# EAGLE library part PIC24FJXXGA002 (library X893)
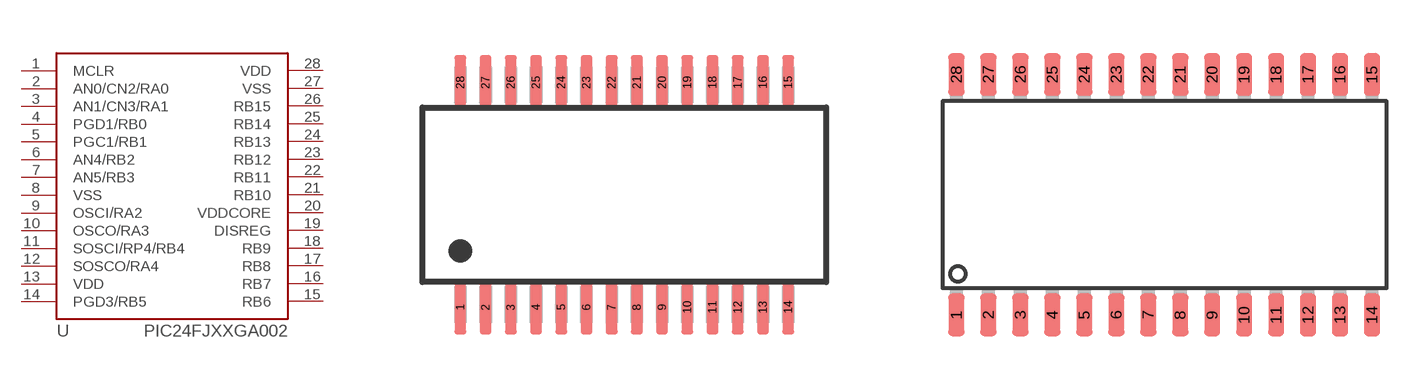
[diagram p103: symbol with the pads of SSOP28DB; footprints SSOP28DB, SO28W]

Designator prefix U

## PIC24FJXXGA002-I/SS  [SSOP28DB]
1  MCLR
2  AN0/CN2/RA0
3  AN1/CN3/RA1
4  PGD1/RB0
5  PGC1/RB1
6  AN4/RB2
7  AN5/RB3
8  VSS  pas
9  OSCI/RA2
10  OSCO/RA3
11  SOSCI/RP4/RB4
12  SOSCO/RA4
13  VDD
14  PGD3/RB5
15  RB6
16  RB7
17  RB8
18  RB9
19  DISREG  pas
20  VDDCORE  pas
21  RB10
22  RB11
23  RB12
24  RB13
25  RB14
26  RB15
27  VSS  pas
28  VDD  pas

## PIC24FJXXGA002-I/SO  [SO28W]
Pads as for SSOP28DB

## Footprint SSOP28DB (pad centres in mm)
Small Shrink Outline Package
smd 0.3 x 1.4: 1 -4.225,-2.9; 2 -3.575,-2.9; 3 -2.925,-2.9; 4 -2.275,-2.9; 5 -1.625,-2.9; 6 -0.975,-2.9; 7 -0.325,-2.9; 8 0.325,-2.9; 9 0.975,-2.9; 10 1.625,-2.9; 11 2.275,-2.9; 12 2.925,-2.9; 13 3.575,-2.9; 14 4.225,-2.9; 15 4.225,2.9; 16 3.575,2.9; 17 2.925,2.9; 18 2.275,2.9; 19 1.625,2.9; 20 0.975,2.9; 21 0.325,2.9; 22 -0.325,2.9; 23 -0.975,2.9; 24 -1.625,2.9; 25 -2.275,2.9; 26 -2.925,2.9; 27 -3.575,2.9; 28 -4.225,2.9

## Footprint SO28W (pad centres in mm)
28-Lead Plastic Small Outline (SO) Wide, 300 mil Body (SOIC) Source: http://ww1.microchip.com/downloads/en/devicedoc/39632c.pdf
smd 0.65 x 1.7: 1 -8.255,-4.78; 2 -6.985,-4.78; 3 -5.715,-4.78; 4 -4.445,-4.78; 5 -3.175,-4.78; 6 -1.905,-4.78; 7 -0.635,-4.78; 8 0.635,-4.78; 9 1.905,-4.78; 10 3.175,-4.78; 11 4.445,-4.78; 12 5.715,-4.78; 13 6.985,-4.78; 14 8.255,-4.78; 15 8.255,4.78; 16 6.985,4.78; 17 5.715,4.78; 18 4.445,4.78; 19 3.175,4.78; 20 1.905,4.78; 21 0.635,4.78; 22 -0.635,4.78; 23 -1.905,4.78; 24 -3.175,4.78; 25 -4.445,4.78; 26 -5.715,4.78; 27 -6.985,4.78; 28 -8.255,4.78